# Altium integrated library Linear Technology Power Management Switching Regulator LT1074-LT8705.IntLib: 2252 symbols (part 50 of 148)
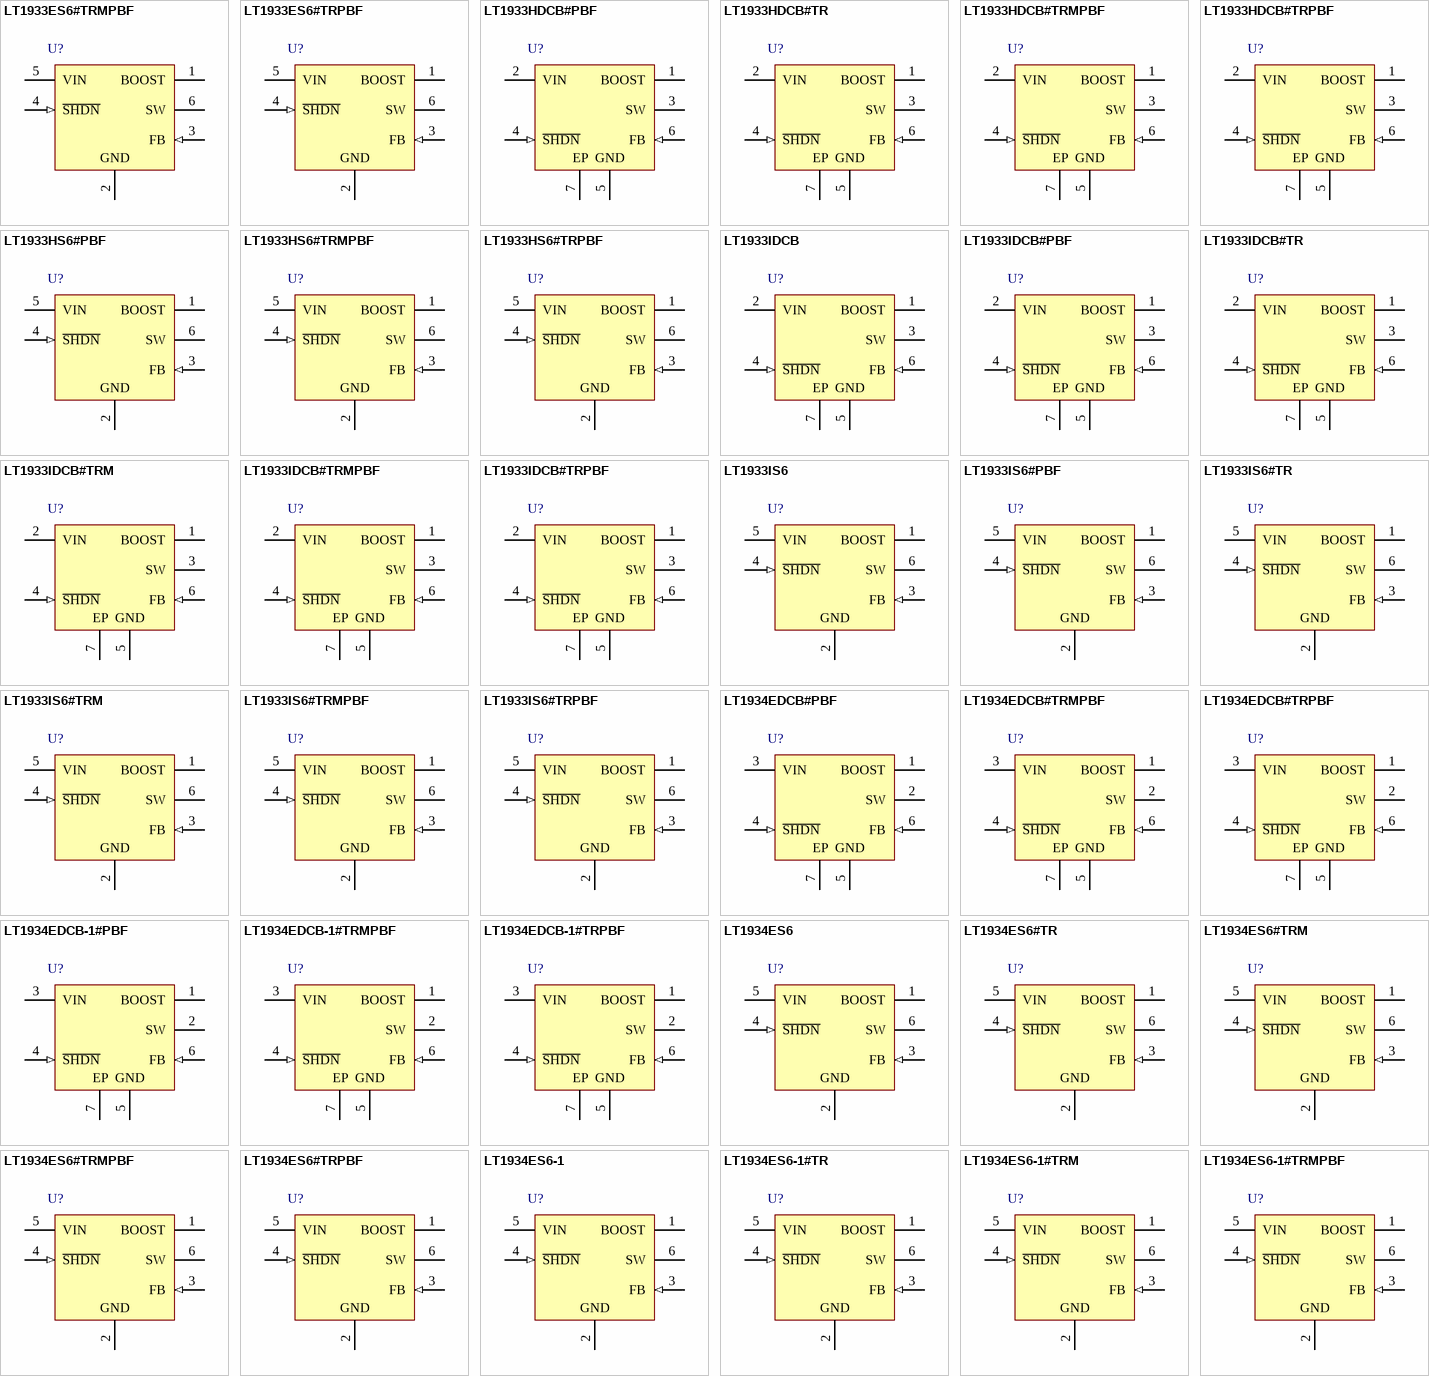
[diagram p120: symbols LT1933ES6#TRMPBF to LT1934ES6-1#TRMPBF]

## LT1933IDCB
designator U?
600 mA, 500 kHz Step-Down Switching Regulator, 6-pin SON (DCB-6), -40 to 125 degC; Manufacturer: Linear Technology; PartNumber: LT1933IDCB; Number of Outputs: 1; DatasheetVersion: Rev. E; PackageVersion: Rev. A, 03/2011; PackageReference: DCB-6; PackageDescription: 6-Pin Plastic DFN, Body 2 x 3 mm, Pitch 0.5 mm; RoHS: FALSE; Mounting Technology: Surface Mount; Code_JEDEC: MO-229; ComponentLink1Description: Manufacturer URL; ComponentLink1URL: http://www.linear.com/; ComponentLink2Description: Datasheet; ComponentLink2URL: http://cds.linear.com/docs/en/datasheet/1933fe.pdf; ComponentLink3Description: Package Specification; ComponentLink3URL: http://www.linear.com/docs/en/packaging/(DCB6)%20DFN%2005-08-1715%20Rev%20A.pdf
footprint LT-DCB-6_V (SON, 6-Leads, Body 3x2mm, Pitch 0.5mm, Thermal Pad 1.65x1.35mm)
pins: 1 BOOST "The BOOST pin is used to provide a drive voltage, higher than the input voltage, to the internal bipolar NPN power switch.", 2 VIN (power) "The VIN pin supplies current to the LT1933’s internal regulator and to the internal power switch. This pin must be locally bypassed.", 3 SW (power) "The SW pin is the output of the internal power switch. Connect this pin to the inductor, catch diode and boost capacitor.", 4 ~{SHDN} (in) "The S\H\D\N\ pin is used to put the LT1933 in shutdown mode. Tie to ground to shut down the LT1933. Tie to 2.3V or more for normal operation. If the shutdown feature is not used, tie this pin to the VIN pin. S\H\D\N\ also (See Datasheet)", 5 GND (power) "Tie the GND pin to a local ground plane below the LT1933 and the circuit components. Return the feedback divider to this pin.", 6 FB (in) "The LT1933 regulates its feedback pin to 1.245V. Connect the feedback resistor divider tap to this pin. Set the output voltage according to VOUT = 1.245V (1 + R1/R2). A good value for R2 is 10k.", 7 EP (power) "EXPOSED PAD (PIN 7) IS GND, MUST BE SOLDERED TO PCB"

## LT1933IDCB#PBF
designator U?
600 mA, 500 kHz Step-Down Switching Regulator, 6-pin SON (DCB-6), -40 to 125 degC, Pb-Free; Manufacturer: Linear Technology; PartNumber: LT1933IDCB#PBF; Number of Outputs: 1; DatasheetVersion: Rev. E; PackageVersion: Rev. A, 03/2011; PackageReference: DCB-6; PackageDescription: 6-Pin Plastic DFN, Body 2 x 3 mm, Pitch 0.5 mm; Supplier 1: Farnell; Supplier Part Number 1: 2294892; Supplier 2: Newark; Supplier Part Number 2: 78T3760; RoHS: TRUE; Mounting Technology: Surface Mount; Code_JEDEC: MO-229; ComponentLink1Description: Manufacturer URL; ComponentLink1URL: http://www.linear.com/; ComponentLink2Description: Datasheet; ComponentLink2URL: http://cds.linear.com/docs/en/datasheet/1933fe.pdf; ComponentLink3Description: Package Specification; ComponentLink3URL: http://www.linear.com/docs/en/packaging/(DCB6)%20DFN%2005-08-1715%20Rev%20A.pdf
footprint LT-DCB-6_V (SON, 6-Leads, Body 3x2mm, Pitch 0.5mm, Thermal Pad 1.65x1.35mm)
pins: 1 BOOST "The BOOST pin is used to provide a drive voltage, higher than the input voltage, to the internal bipolar NPN power switch.", 2 VIN (power) "The VIN pin supplies current to the LT1933’s internal regulator and to the internal power switch. This pin must be locally bypassed.", 3 SW (power) "The SW pin is the output of the internal power switch. Connect this pin to the inductor, catch diode and boost capacitor.", 4 ~{SHDN} (in) "The S\H\D\N\ pin is used to put the LT1933 in shutdown mode. Tie to ground to shut down the LT1933. Tie to 2.3V or more for normal operation. If the shutdown feature is not used, tie this pin to the VIN pin. S\H\D\N\ also (See Datasheet)", 5 GND (power) "Tie the GND pin to a local ground plane below the LT1933 and the circuit components. Return the feedback divider to this pin.", 6 FB (in) "The LT1933 regulates its feedback pin to 1.245V. Connect the feedback resistor divider tap to this pin. Set the output voltage according to VOUT = 1.245V (1 + R1/R2). A good value for R2 is 10k.", 7 EP (power) "EXPOSED PAD (PIN 7) IS GND, MUST BE SOLDERED TO PCB"

## LT1933IDCB#TR
designator U?
600 mA, 500 kHz Step-Down Switching Regulator, 6-pin SON (DCB-6), -40 to 125 degC, Tape and Reel; Manufacturer: Linear Technology; PartNumber: LT1933IDCB#TR; Number of Outputs: 1; DatasheetVersion: Rev. E; PackageVersion: Rev. A, 03/2011; PackageReference: DCB-6; PackageDescription: 6-Pin Plastic DFN, Body 2 x 3 mm, Pitch 0.5 mm; Packing: Tape and Reel; RoHS: FALSE; Mounting Technology: Surface Mount; Code_JEDEC: MO-229; ComponentLink1Description: Manufacturer URL; ComponentLink1URL: http://www.linear.com/; ComponentLink2Description: Datasheet; ComponentLink2URL: http://cds.linear.com/docs/en/datasheet/1933fe.pdf; ComponentLink3Description: Package Specification; ComponentLink3URL: http://www.linear.com/docs/en/packaging/(DCB6)%20DFN%2005-08-1715%20Rev%20A.pdf
footprint LT-DCB-6_V (SON, 6-Leads, Body 3x2mm, Pitch 0.5mm, Thermal Pad 1.65x1.35mm)
pins: 1 BOOST "The BOOST pin is used to provide a drive voltage, higher than the input voltage, to the internal bipolar NPN power switch.", 2 VIN (power) "The VIN pin supplies current to the LT1933’s internal regulator and to the internal power switch. This pin must be locally bypassed.", 3 SW (power) "The SW pin is the output of the internal power switch. Connect this pin to the inductor, catch diode and boost capacitor.", 4 ~{SHDN} (in) "The S\H\D\N\ pin is used to put the LT1933 in shutdown mode. Tie to ground to shut down the LT1933. Tie to 2.3V or more for normal operation. If the shutdown feature is not used, tie this pin to the VIN pin. S\H\D\N\ also (See Datasheet)", 5 GND (power) "Tie the GND pin to a local ground plane below the LT1933 and the circuit components. Return the feedback divider to this pin.", 6 FB (in) "The LT1933 regulates its feedback pin to 1.245V. Connect the feedback resistor divider tap to this pin. Set the output voltage according to VOUT = 1.245V (1 + R1/R2). A good value for R2 is 10k.", 7 EP (power) "EXPOSED PAD (PIN 7) IS GND, MUST BE SOLDERED TO PCB"

## LT1933IDCB#TRM
designator U?
600 mA, 500 kHz Step-Down Switching Regulator, 6-pin SON (DCB-6), -40 to 125 degC, Mini Tape and Reel; Manufacturer: Linear Technology; PartNumber: LT1933IDCB#TRM; Number of Outputs: 1; DatasheetVersion: Rev. E; PackageVersion: Rev. A, 03/2011; PackageReference: DCB-6; PackageDescription: 6-Pin Plastic DFN, Body 2 x 3 mm, Pitch 0.5 mm; Packing: Mini Tape and Reel; RoHS: FALSE; Mounting Technology: Surface Mount; Code_JEDEC: MO-229; ComponentLink1Description: Manufacturer URL; ComponentLink1URL: http://www.linear.com/; ComponentLink2Description: Datasheet; ComponentLink2URL: http://cds.linear.com/docs/en/datasheet/1933fe.pdf; ComponentLink3Description: Package Specification; ComponentLink3URL: http://www.linear.com/docs/en/packaging/(DCB6)%20DFN%2005-08-1715%20Rev%20A.pdf
footprint LT-DCB-6_V (SON, 6-Leads, Body 3x2mm, Pitch 0.5mm, Thermal Pad 1.65x1.35mm)
pins: 1 BOOST "The BOOST pin is used to provide a drive voltage, higher than the input voltage, to the internal bipolar NPN power switch.", 2 VIN (power) "The VIN pin supplies current to the LT1933’s internal regulator and to the internal power switch. This pin must be locally bypassed.", 3 SW (power) "The SW pin is the output of the internal power switch. Connect this pin to the inductor, catch diode and boost capacitor.", 4 ~{SHDN} (in) "The S\H\D\N\ pin is used to put the LT1933 in shutdown mode. Tie to ground to shut down the LT1933. Tie to 2.3V or more for normal operation. If the shutdown feature is not used, tie this pin to the VIN pin. S\H\D\N\ also (See Datasheet)", 5 GND (power) "Tie the GND pin to a local ground plane below the LT1933 and the circuit components. Return the feedback divider to this pin.", 6 FB (in) "The LT1933 regulates its feedback pin to 1.245V. Connect the feedback resistor divider tap to this pin. Set the output voltage according to VOUT = 1.245V (1 + R1/R2). A good value for R2 is 10k.", 7 EP (power) "EXPOSED PAD (PIN 7) IS GND, MUST BE SOLDERED TO PCB"

## LT1933IDCB#TRMPBF
designator U?
600 mA, 500 kHz Step-Down Switching Regulator, 6-pin SON (DCB-6), -40 to 125 degC, Pb-Free, Mini Tape and Reel; Manufacturer: Linear Technology; PartNumber: LT1933IDCB#TRMPBF; Number of Outputs: 1; DatasheetVersion: Rev. E; PackageVersion: Rev. A, 03/2011; PackageReference: DCB-6; PackageDescription: 6-Pin Plastic DFN, Body 2 x 3 mm, Pitch 0.5 mm; Supplier 1: Digi-Key; Supplier Part Number 1: LT1933IDCB#TRMPBF-ND; Supplier 2: Newark; Supplier Part Number 2: 57M7190; Packing: Mini Tape and Reel; RoHS: TRUE; Mounting Technology: Surface Mount; Code_JEDEC: MO-229; ComponentLink1Description: Manufacturer URL; ComponentLink1URL: http://www.linear.com/; ComponentLink2Description: Datasheet; ComponentLink2URL: http://cds.linear.com/docs/en/datasheet/1933fe.pdf; ComponentLink3Description: Package Specification; ComponentLink3URL: http://www.linear.com/docs/en/packaging/(DCB6)%20DFN%2005-08-1715%20Rev%20A.pdf
footprint LT-DCB-6_V (SON, 6-Leads, Body 3x2mm, Pitch 0.5mm, Thermal Pad 1.65x1.35mm)
pins: 1 BOOST "The BOOST pin is used to provide a drive voltage, higher than the input voltage, to the internal bipolar NPN power switch.", 2 VIN (power) "The VIN pin supplies current to the LT1933’s internal regulator and to the internal power switch. This pin must be locally bypassed.", 3 SW (power) "The SW pin is the output of the internal power switch. Connect this pin to the inductor, catch diode and boost capacitor.", 4 ~{SHDN} (in) "The S\H\D\N\ pin is used to put the LT1933 in shutdown mode. Tie to ground to shut down the LT1933. Tie to 2.3V or more for normal operation. If the shutdown feature is not used, tie this pin to the VIN pin. S\H\D\N\ also (See Datasheet)", 5 GND (power) "Tie the GND pin to a local ground plane below the LT1933 and the circuit components. Return the feedback divider to this pin.", 6 FB (in) "The LT1933 regulates its feedback pin to 1.245V. Connect the feedback resistor divider tap to this pin. Set the output voltage according to VOUT = 1.245V (1 + R1/R2). A good value for R2 is 10k.", 7 EP (power) "EXPOSED PAD (PIN 7) IS GND, MUST BE SOLDERED TO PCB"

## LT1933IDCB#TRPBF
designator U?
600 mA, 500 kHz Step-Down Switching Regulator, 6-pin SON (DCB-6), -40 to 125 degC, Pb-Free, Tape and Reel; Manufacturer: Linear Technology; PartNumber: LT1933IDCB#TRPBF; Number of Outputs: 1; DatasheetVersion: Rev. E; PackageVersion: Rev. A, 03/2011; PackageReference: DCB-6; PackageDescription: 6-Pin Plastic DFN, Body 2 x 3 mm, Pitch 0.5 mm; Supplier 1: Digi-Key; Supplier Part Number 1: LT1933IDCB#TRPBF-ND; Supplier 2: Newark; Supplier Part Number 2: 57M7191; Packing: Tape and Reel; RoHS: TRUE; Mounting Technology: Surface Mount; Code_JEDEC: MO-229; ComponentLink1Description: Manufacturer URL; ComponentLink1URL: http://www.linear.com/; ComponentLink2Description: Datasheet; ComponentLink2URL: http://cds.linear.com/docs/en/datasheet/1933fe.pdf; ComponentLink3Description: Package Specification; ComponentLink3URL: http://www.linear.com/docs/en/packaging/(DCB6)%20DFN%2005-08-1715%20Rev%20A.pdf
footprint LT-DCB-6_V (SON, 6-Leads, Body 3x2mm, Pitch 0.5mm, Thermal Pad 1.65x1.35mm)
pins: 1 BOOST "The BOOST pin is used to provide a drive voltage, higher than the input voltage, to the internal bipolar NPN power switch.", 2 VIN (power) "The VIN pin supplies current to the LT1933’s internal regulator and to the internal power switch. This pin must be locally bypassed.", 3 SW (power) "The SW pin is the output of the internal power switch. Connect this pin to the inductor, catch diode and boost capacitor.", 4 ~{SHDN} (in) "The S\H\D\N\ pin is used to put the LT1933 in shutdown mode. Tie to ground to shut down the LT1933. Tie to 2.3V or more for normal operation. If the shutdown feature is not used, tie this pin to the VIN pin. S\H\D\N\ also (See Datasheet)", 5 GND (power) "Tie the GND pin to a local ground plane below the LT1933 and the circuit components. Return the feedback divider to this pin.", 6 FB (in) "The LT1933 regulates its feedback pin to 1.245V. Connect the feedback resistor divider tap to this pin. Set the output voltage according to VOUT = 1.245V (1 + R1/R2). A good value for R2 is 10k.", 7 EP (power) "EXPOSED PAD (PIN 7) IS GND, MUST BE SOLDERED TO PCB"

## LT1933IS6
designator U?
600 mA, 500 kHz Step-Down Switching Regulator, 6-pin SOT23 (S6-6), -40 to 125 degC; Manufacturer: Linear Technology; PartNumber: LT1933IS6; Number of Outputs: 1; DatasheetVersion: Rev. E; PackageVersion: Aug-07; PackageReference: S6-6; PackageDescription: 6-Pin Plastic SOT-23, Body 1.625 x 2.9 mm, Pitch 0.95 mm; RoHS: FALSE; Mounting Technology: Surface Mount; ComponentLink1Description: Manufacturer URL; ComponentLink1URL: http://www.linear.com/; ComponentLink2Description: Datasheet; ComponentLink2URL: http://cds.linear.com/docs/en/datasheet/1933fe.pdf; ComponentLink3Description: Package Specification; ComponentLink3URL: http://cds.linear.com/docs/en/datasheet/175435f.pdf
footprint LT-S6-6-SOT-23_N (SOT23, 6-Leads, Body 3x1.75mm, Pitch 0.95mm, IPC Medium Density)
footprint LT-S6-6-SOT-23_L (SOT23, 6-Leads, Body 3x1.75mm, Pitch 0.95mm, IPC High Density)
footprint LT-S6-6-SOT-23_M (SOT23, 6-Leads, Body 3x1.75mm, Pitch 0.95mm, IPC Low Density)
pins: 1 BOOST "The BOOST pin is used to provide a drive voltage, higher than the input voltage, to the internal bipolar NPN power switch.", 2 GND (power), 3 FB (in), 4 ~{SHDN} (in), 5 VIN (power), 6 SW (power) "The SW pin is the output of the internal power switch. Connect this pin to the inductor, catch diode and boost capacitor."

## LT1933IS6#PBF
designator U?
600 mA, 500 kHz Step-Down Switching Regulator, 6-pin SOT23 (S6-6), -40 to 125 degC, Pb-Free; Manufacturer: Linear Technology; PartNumber: LT1933IS6#PBF; Number of Outputs: 1; DatasheetVersion: Rev. E; PackageVersion: Aug-07; PackageReference: S6-6; PackageDescription: 6-Pin Plastic SOT-23, Body 1.625 x 2.9 mm, Pitch 0.95 mm; Supplier 1: Farnell; Supplier Part Number 1: 2102607; Supplier 2: Newark; Supplier Part Number 2: 61M3374; RoHS: TRUE; Mounting Technology: Surface Mount; ComponentLink1Description: Manufacturer URL; ComponentLink1URL: http://www.linear.com/; ComponentLink2Description: Datasheet; ComponentLink2URL: http://cds.linear.com/docs/en/datasheet/1933fe.pdf; ComponentLink3Description: Package Specification; ComponentLink3URL: http://cds.linear.com/docs/en/datasheet/175435f.pdf
footprint LT-S6-6-SOT-23_N (SOT23, 6-Leads, Body 3x1.75mm, Pitch 0.95mm, IPC Medium Density)
footprint LT-S6-6-SOT-23_L (SOT23, 6-Leads, Body 3x1.75mm, Pitch 0.95mm, IPC High Density)
footprint LT-S6-6-SOT-23_M (SOT23, 6-Leads, Body 3x1.75mm, Pitch 0.95mm, IPC Low Density)
pins: 1 BOOST "The BOOST pin is used to provide a drive voltage, higher than the input voltage, to the internal bipolar NPN power switch.", 2 GND (power), 3 FB (in), 4 ~{SHDN} (in), 5 VIN (power), 6 SW (power) "The SW pin is the output of the internal power switch. Connect this pin to the inductor, catch diode and boost capacitor."

## LT1933IS6#TR
designator U?
600 mA, 500 kHz Step-Down Switching Regulator, 6-pin SOT23 (S6-6), -40 to 125 degC, Tape and Reel; Manufacturer: Linear Technology; PartNumber: LT1933IS6#TR; Number of Outputs: 1; DatasheetVersion: Rev. E; PackageVersion: Aug-07; PackageReference: S6-6; PackageDescription: 6-Pin Plastic SOT-23, Body 1.625 x 2.9 mm, Pitch 0.95 mm; Supplier 1: Digi-Key; Supplier Part Number 1: LT1933IS6#TR-ND; Packing: Tape and Reel; RoHS: FALSE; Mounting Technology: Surface Mount; ComponentLink1Description: Manufacturer URL; ComponentLink1URL: http://www.linear.com/; ComponentLink2Description: Datasheet; ComponentLink2URL: http://cds.linear.com/docs/en/datasheet/1933fe.pdf; ComponentLink3Description: Package Specification; ComponentLink3URL: http://cds.linear.com/docs/en/datasheet/175435f.pdf
footprint LT-S6-6-SOT-23_N (SOT23, 6-Leads, Body 3x1.75mm, Pitch 0.95mm, IPC Medium Density)
footprint LT-S6-6-SOT-23_L (SOT23, 6-Leads, Body 3x1.75mm, Pitch 0.95mm, IPC High Density)
footprint LT-S6-6-SOT-23_M (SOT23, 6-Leads, Body 3x1.75mm, Pitch 0.95mm, IPC Low Density)
pins: 1 BOOST "The BOOST pin is used to provide a drive voltage, higher than the input voltage, to the internal bipolar NPN power switch.", 2 GND (power), 3 FB (in), 4 ~{SHDN} (in), 5 VIN (power), 6 SW (power) "The SW pin is the output of the internal power switch. Connect this pin to the inductor, catch diode and boost capacitor."

## LT1933IS6#TRM
designator U?
600 mA, 500 kHz Step-Down Switching Regulator, 6-pin SOT23 (S6-6), -40 to 125 degC, Mini Tape and Reel; Manufacturer: Linear Technology; PartNumber: LT1933IS6#TRM; Number of Outputs: 1; DatasheetVersion: Rev. E; PackageVersion: Aug-07; PackageReference: S6-6; PackageDescription: 6-Pin Plastic SOT-23, Body 1.625 x 2.9 mm, Pitch 0.95 mm; Supplier 1: Digi-Key; Supplier Part Number 1: LT1933IS6#TRM-ND; Packing: Mini Tape and Reel; RoHS: FALSE; Mounting Technology: Surface Mount; ComponentLink1Description: Manufacturer URL; ComponentLink1URL: http://www.linear.com/; ComponentLink2Description: Datasheet; ComponentLink2URL: http://cds.linear.com/docs/en/datasheet/1933fe.pdf; ComponentLink3Description: Package Specification; ComponentLink3URL: http://cds.linear.com/docs/en/datasheet/175435f.pdf
footprint LT-S6-6-SOT-23_N (SOT23, 6-Leads, Body 3x1.75mm, Pitch 0.95mm, IPC Medium Density)
footprint LT-S6-6-SOT-23_L (SOT23, 6-Leads, Body 3x1.75mm, Pitch 0.95mm, IPC High Density)
footprint LT-S6-6-SOT-23_M (SOT23, 6-Leads, Body 3x1.75mm, Pitch 0.95mm, IPC Low Density)
pins: 1 BOOST "The BOOST pin is used to provide a drive voltage, higher than the input voltage, to the internal bipolar NPN power switch.", 2 GND (power), 3 FB (in), 4 ~{SHDN} (in), 5 VIN (power), 6 SW (power) "The SW pin is the output of the internal power switch. Connect this pin to the inductor, catch diode and boost capacitor."

## LT1933IS6#TRMPBF
designator U?
600 mA, 500 kHz Step-Down Switching Regulator, 6-pin SOT23 (S6-6), -40 to 125 degC, Pb-Free, Mini Tape and Reel; Manufacturer: Linear Technology; PartNumber: LT1933IS6#TRMPBF; Number of Outputs: 1; DatasheetVersion: Rev. E; PackageVersion: Aug-07; PackageReference: S6-6; PackageDescription: 6-Pin Plastic SOT-23, Body 1.625 x 2.9 mm, Pitch 0.95 mm; Supplier 1: Digi-Key; Supplier Part Number 1: LT1933IS6#TRMPBFTR-ND; Supplier 2: Digi-Key; Supplier Part Number 2: LT1933IS6#TRMPBFCT-ND; Supplier 3: Digi-Key; Supplier Part Number 3: LT1933IS6#TRMPBFDKR-ND; Supplier 4: Newark; Supplier Part Number 4: 57M7194; Packing: Mini Tape and Reel; RoHS: TRUE; Mounting Technology: Surface Mount; ComponentLink1Description: Manufacturer URL; ComponentLink1URL: http://www.linear.com/; ComponentLink2Description: Datasheet; ComponentLink2URL: http://cds.linear.com/docs/en/datasheet/1933fe.pdf; ComponentLink3Description: Package Specification; ComponentLink3URL: http://cds.linear.com/docs/en/datasheet/175435f.pdf
footprint LT-S6-6-SOT-23_N (SOT23, 6-Leads, Body 3x1.75mm, Pitch 0.95mm, IPC Medium Density)
footprint LT-S6-6-SOT-23_L (SOT23, 6-Leads, Body 3x1.75mm, Pitch 0.95mm, IPC High Density)
footprint LT-S6-6-SOT-23_M (SOT23, 6-Leads, Body 3x1.75mm, Pitch 0.95mm, IPC Low Density)
pins: 1 BOOST "The BOOST pin is used to provide a drive voltage, higher than the input voltage, to the internal bipolar NPN power switch.", 2 GND (power), 3 FB (in), 4 ~{SHDN} (in), 5 VIN (power), 6 SW (power) "The SW pin is the output of the internal power switch. Connect this pin to the inductor, catch diode and boost capacitor."

## LT1933IS6#TRPBF
designator U?
600 mA, 500 kHz Step-Down Switching Regulator, 6-pin SOT23 (S6-6), -40 to 125 degC, Pb-Free, Tape and Reel; Manufacturer: Linear Technology; PartNumber: LT1933IS6#TRPBF; Number of Outputs: 1; DatasheetVersion: Rev. E; PackageVersion: Aug-07; PackageReference: S6-6; PackageDescription: 6-Pin Plastic SOT-23, Body 1.625 x 2.9 mm, Pitch 0.95 mm; Supplier 1: Digi-Key; Supplier Part Number 1: LT1933IS6#TRPBF-ND; Supplier 2: Newark; Supplier Part Number 2: 57M7195; Packing: Tape and Reel; RoHS: TRUE; Mounting Technology: Surface Mount; ComponentLink1Description: Manufacturer URL; ComponentLink1URL: http://www.linear.com/; ComponentLink2Description: Datasheet; ComponentLink2URL: http://cds.linear.com/docs/en/datasheet/1933fe.pdf; ComponentLink3Description: Package Specification; ComponentLink3URL: http://cds.linear.com/docs/en/datasheet/175435f.pdf
footprint LT-S6-6-SOT-23_N (SOT23, 6-Leads, Body 3x1.75mm, Pitch 0.95mm, IPC Medium Density)
footprint LT-S6-6-SOT-23_L (SOT23, 6-Leads, Body 3x1.75mm, Pitch 0.95mm, IPC High Density)
footprint LT-S6-6-SOT-23_M (SOT23, 6-Leads, Body 3x1.75mm, Pitch 0.95mm, IPC Low Density)
pins: 1 BOOST "The BOOST pin is used to provide a drive voltage, higher than the input voltage, to the internal bipolar NPN power switch.", 2 GND (power), 3 FB (in), 4 ~{SHDN} (in), 5 VIN (power), 6 SW (power) "The SW pin is the output of the internal power switch. Connect this pin to the inductor, catch diode and boost capacitor."

## LT1934EDCB#PBF
designator U?
Micropower Step-Down Switching Regulator, 6-pin SON (DCB-6), -40 to 85 degC, Pb-Free; Manufacturer: Linear Technology; PartNumber: LT1934EDCB#PBF; Number of Outputs: 1; DatasheetVersion: Rev. E; PackageVersion: Rev. A, 03/2011; PackageReference: DCB-6; PackageDescription: 6-Pin Plastic DFN, Body 2 x 3 mm, Pitch 0.5 mm; RoHS: TRUE; Mounting Technology: Surface Mount; Code_JEDEC: MO-229; ComponentLink1Description: Manufacturer URL; ComponentLink1URL: http://www.linear.com/; ComponentLink2Description: Datasheet; ComponentLink2URL: http://cds.linear.com/docs/en/datasheet/1934fe.pdf; ComponentLink3Description: Package Specification; ComponentLink3URL: http://www.linear.com/docs/en/packaging/(DCB6)%20DFN%2005-08-1715%20Rev%20A.pdf
footprint LT-DCB-6_V (SON, 6-Leads, Body 3x2mm, Pitch 0.5mm, Thermal Pad 1.65x1.35mm)
pins: 1 BOOST "The BOOST pin is used to provide a drive voltage, higher than the input voltage, to the internal bipolar NPN power switch.", 2 SW (power) "The SW pin is the output of the internal power switch. Connect this pin to the inductor, catch diode and boost capacitor.", 3 VIN (power) "The VIN pin supplies current to the LT1934’s internal regulator and to the internal power switch. This pin must be locally bypassed.", 4 ~{SHDN} (in) "The S\H\D\N\ pin is used to put the LT1934 in shutdown mode. Tie to ground to shut down the LT1934. Apply 2.3V or more for normal operation. If the shutdown feature is not used, tie this pin to the VIN pin.", 5 GND (power) "Tie the GND pin to a local ground plane below the LT1934 and the circuit components. Return the feedback divider to this pin.", 6 FB (in) "The LT1934 regulates its feedback pin to 1.25V. Connect the feedback resistor divider tap to this pin. Set the output voltage according to VOUT = 1.25V (1 + R1/R2) or R1 = R2 (VOUT/1.25 - 1).", 7 EP (power) "This pin must be soldered to ground plane."

## LT1934EDCB#TRMPBF
designator U?
Micropower Step-Down Switching Regulator, 6-pin SON (DCB-6), -40 to 85 degC, Pb-Free, Mini Tape and Reel; Manufacturer: Linear Technology; PartNumber: LT1934EDCB#TRMPBF; Number of Outputs: 1; DatasheetVersion: Rev. E; PackageVersion: Rev. A, 03/2011; PackageReference: DCB-6; PackageDescription: 6-Pin Plastic DFN, Body 2 x 3 mm, Pitch 0.5 mm; Supplier 1: Digi-Key; Supplier Part Number 1: LT1934EDCB#TRMPBF-ND; Packing: Mini Tape and Reel; RoHS: TRUE; Mounting Technology: Surface Mount; Code_JEDEC: MO-229; ComponentLink1Description: Manufacturer URL; ComponentLink1URL: http://www.linear.com/; ComponentLink2Description: Datasheet; ComponentLink2URL: http://cds.linear.com/docs/en/datasheet/1934fe.pdf; ComponentLink3Description: Package Specification; ComponentLink3URL: http://www.linear.com/docs/en/packaging/(DCB6)%20DFN%2005-08-1715%20Rev%20A.pdf
footprint LT-DCB-6_V (SON, 6-Leads, Body 3x2mm, Pitch 0.5mm, Thermal Pad 1.65x1.35mm)
pins: 1 BOOST "The BOOST pin is used to provide a drive voltage, higher than the input voltage, to the internal bipolar NPN power switch.", 2 SW (power) "The SW pin is the output of the internal power switch. Connect this pin to the inductor, catch diode and boost capacitor.", 3 VIN (power) "The VIN pin supplies current to the LT1934’s internal regulator and to the internal power switch. This pin must be locally bypassed.", 4 ~{SHDN} (in) "The S\H\D\N\ pin is used to put the LT1934 in shutdown mode. Tie to ground to shut down the LT1934. Apply 2.3V or more for normal operation. If the shutdown feature is not used, tie this pin to the VIN pin.", 5 GND (power) "Tie the GND pin to a local ground plane below the LT1934 and the circuit components. Return the feedback divider to this pin.", 6 FB (in) "The LT1934 regulates its feedback pin to 1.25V. Connect the feedback resistor divider tap to this pin. Set the output voltage according to VOUT = 1.25V (1 + R1/R2) or R1 = R2 (VOUT/1.25 - 1).", 7 EP (power) "This pin must be soldered to ground plane."

## LT1934EDCB#TRPBF
designator U?
Micropower Step-Down Switching Regulator, 6-pin SON (DCB-6), -40 to 85 degC, Pb-Free, Tape and Reel; Manufacturer: Linear Technology; PartNumber: LT1934EDCB#TRPBF; Number of Outputs: 1; DatasheetVersion: Rev. E; PackageVersion: Rev. A, 03/2011; PackageReference: DCB-6; PackageDescription: 6-Pin Plastic DFN, Body 2 x 3 mm, Pitch 0.5 mm; Supplier 1: Digi-Key; Supplier Part Number 1: LT1934EDCB#TRPBF-ND; Supplier 2: Newark; Supplier Part Number 2: 57M7197; Packing: Tape and Reel; RoHS: TRUE; Mounting Technology: Surface Mount; Code_JEDEC: MO-229; ComponentLink1Description: Manufacturer URL; ComponentLink1URL: http://www.linear.com/; ComponentLink2Description: Datasheet; ComponentLink2URL: http://cds.linear.com/docs/en/datasheet/1934fe.pdf; ComponentLink3Description: Package Specification; ComponentLink3URL: http://www.linear.com/docs/en/packaging/(DCB6)%20DFN%2005-08-1715%20Rev%20A.pdf
footprint LT-DCB-6_V (SON, 6-Leads, Body 3x2mm, Pitch 0.5mm, Thermal Pad 1.65x1.35mm)
pins: 1 BOOST "The BOOST pin is used to provide a drive voltage, higher than the input voltage, to the internal bipolar NPN power switch.", 2 SW (power) "The SW pin is the output of the internal power switch. Connect this pin to the inductor, catch diode and boost capacitor.", 3 VIN (power) "The VIN pin supplies current to the LT1934’s internal regulator and to the internal power switch. This pin must be locally bypassed.", 4 ~{SHDN} (in) "The S\H\D\N\ pin is used to put the LT1934 in shutdown mode. Tie to ground to shut down the LT1934. Apply 2.3V or more for normal operation. If the shutdown feature is not used, tie this pin to the VIN pin.", 5 GND (power) "Tie the GND pin to a local ground plane below the LT1934 and the circuit components. Return the feedback divider to this pin.", 6 FB (in) "The LT1934 regulates its feedback pin to 1.25V. Connect the feedback resistor divider tap to this pin. Set the output voltage according to VOUT = 1.25V (1 + R1/R2) or R1 = R2 (VOUT/1.25 - 1).", 7 EP (power) "This pin must be soldered to ground plane."

## LT1934EDCB-1#PBF
designator U?
Micropower Step-Down Switching Regulator, 6-pin SON (DCB-6), -40 to 85 degC, Pb-Free; Manufacturer: Linear Technology; PartNumber: LT1934EDCB-1#PBF; Number of Outputs: 1; DatasheetVersion: Rev. E; PackageVersion: Rev. A, 03/2011; PackageReference: DCB-6; PackageDescription: 6-Pin Plastic DFN, Body 2 x 3 mm, Pitch 0.5 mm; Supplier 1: Newark; Supplier Part Number 1: 78T3761; RoHS: TRUE; Mounting Technology: Surface Mount; Code_JEDEC: MO-229; ComponentLink1Description: Manufacturer URL; ComponentLink1URL: http://www.linear.com/; ComponentLink2Description: Datasheet; ComponentLink2URL: http://cds.linear.com/docs/en/datasheet/1934fe.pdf; ComponentLink3Description: Package Specification; ComponentLink3URL: http://www.linear.com/docs/en/packaging/(DCB6)%20DFN%2005-08-1715%20Rev%20A.pdf
footprint LT-DCB-6_V (SON, 6-Leads, Body 3x2mm, Pitch 0.5mm, Thermal Pad 1.65x1.35mm)
pins: 1 BOOST "The BOOST pin is used to provide a drive voltage, higher than the input voltage, to the internal bipolar NPN power switch.", 2 SW (power) "The SW pin is the output of the internal power switch. Connect this pin to the inductor, catch diode and boost capacitor.", 3 VIN (power) "The VIN pin supplies current to the LT1934’s internal regulator and to the internal power switch. This pin must be locally bypassed.", 4 ~{SHDN} (in) "The S\H\D\N\ pin is used to put the LT1934 in shutdown mode. Tie to ground to shut down the LT1934. Apply 2.3V or more for normal operation. If the shutdown feature is not used, tie this pin to the VIN pin.", 5 GND (power) "Tie the GND pin to a local ground plane below the LT1934 and the circuit components. Return the feedback divider to this pin.", 6 FB (in) "The LT1934 regulates its feedback pin to 1.25V. Connect the feedback resistor divider tap to this pin. Set the output voltage according to VOUT = 1.25V (1 + R1/R2) or R1 = R2 (VOUT/1.25 - 1).", 7 EP (power) "This pin must be soldered to ground plane."

## LT1934EDCB-1#TRMPBF
designator U?
Micropower Step-Down Switching Regulator, 6-pin SON (DCB-6), -40 to 85 degC, Pb-Free, Mini Tape and Reel; Manufacturer: Linear Technology; PartNumber: LT1934EDCB-1#TRMPBF; Number of Outputs: 1; DatasheetVersion: Rev. E; PackageVersion: Rev. A, 03/2011; PackageReference: DCB-6; PackageDescription: 6-Pin Plastic DFN, Body 2 x 3 mm, Pitch 0.5 mm; Supplier 1: Digi-Key; Supplier Part Number 1: LT1934EDCB-1#TRMPBF-ND; Packing: Mini Tape and Reel; RoHS: TRUE; Mounting Technology: Surface Mount; Code_JEDEC: MO-229; ComponentLink1Description: Manufacturer URL; ComponentLink1URL: http://www.linear.com/; ComponentLink2Description: Datasheet; ComponentLink2URL: http://cds.linear.com/docs/en/datasheet/1934fe.pdf; ComponentLink3Description: Package Specification; ComponentLink3URL: http://www.linear.com/docs/en/packaging/(DCB6)%20DFN%2005-08-1715%20Rev%20A.pdf
footprint LT-DCB-6_V (SON, 6-Leads, Body 3x2mm, Pitch 0.5mm, Thermal Pad 1.65x1.35mm)
pins: 1 BOOST "The BOOST pin is used to provide a drive voltage, higher than the input voltage, to the internal bipolar NPN power switch.", 2 SW (power) "The SW pin is the output of the internal power switch. Connect this pin to the inductor, catch diode and boost capacitor.", 3 VIN (power) "The VIN pin supplies current to the LT1934’s internal regulator and to the internal power switch. This pin must be locally bypassed.", 4 ~{SHDN} (in) "The S\H\D\N\ pin is used to put the LT1934 in shutdown mode. Tie to ground to shut down the LT1934. Apply 2.3V or more for normal operation. If the shutdown feature is not used, tie this pin to the VIN pin.", 5 GND (power) "Tie the GND pin to a local ground plane below the LT1934 and the circuit components. Return the feedback divider to this pin.", 6 FB (in) "The LT1934 regulates its feedback pin to 1.25V. Connect the feedback resistor divider tap to this pin. Set the output voltage according to VOUT = 1.25V (1 + R1/R2) or R1 = R2 (VOUT/1.25 - 1).", 7 EP (power) "This pin must be soldered to ground plane."

## LT1934EDCB-1#TRPBF
designator U?
Micropower Step-Down Switching Regulator, 6-pin SON (DCB-6), -40 to 85 degC, Pb-Free, Tape and Reel; Manufacturer: Linear Technology; PartNumber: LT1934EDCB-1#TRPBF; Number of Outputs: 1; DatasheetVersion: Rev. E; PackageVersion: Rev. A, 03/2011; PackageReference: DCB-6; PackageDescription: 6-Pin Plastic DFN, Body 2 x 3 mm, Pitch 0.5 mm; Supplier 1: Digi-Key; Supplier Part Number 1: LT1934EDCB-1#TRPBF-ND; Packing: Tape and Reel; RoHS: TRUE; Mounting Technology: Surface Mount; Code_JEDEC: MO-229; ComponentLink1Description: Manufacturer URL; ComponentLink1URL: http://www.linear.com/; ComponentLink2Description: Datasheet; ComponentLink2URL: http://cds.linear.com/docs/en/datasheet/1934fe.pdf; ComponentLink3Description: Package Specification; ComponentLink3URL: http://www.linear.com/docs/en/packaging/(DCB6)%20DFN%2005-08-1715%20Rev%20A.pdf
footprint LT-DCB-6_V (SON, 6-Leads, Body 3x2mm, Pitch 0.5mm, Thermal Pad 1.65x1.35mm)
pins: 1 BOOST "The BOOST pin is used to provide a drive voltage, higher than the input voltage, to the internal bipolar NPN power switch.", 2 SW (power) "The SW pin is the output of the internal power switch. Connect this pin to the inductor, catch diode and boost capacitor.", 3 VIN (power) "The VIN pin supplies current to the LT1934’s internal regulator and to the internal power switch. This pin must be locally bypassed.", 4 ~{SHDN} (in) "The S\H\D\N\ pin is used to put the LT1934 in shutdown mode. Tie to ground to shut down the LT1934. Apply 2.3V or more for normal operation. If the shutdown feature is not used, tie this pin to the VIN pin.", 5 GND (power) "Tie the GND pin to a local ground plane below the LT1934 and the circuit components. Return the feedback divider to this pin.", 6 FB (in) "The LT1934 regulates its feedback pin to 1.25V. Connect the feedback resistor divider tap to this pin. Set the output voltage according to VOUT = 1.25V (1 + R1/R2) or R1 = R2 (VOUT/1.25 - 1).", 7 EP (power) "This pin must be soldered to ground plane."

## LT1934ES6
designator U?
Micropower Step-Down Switching Regulator, 6-pin SOT23 (S6-6), -40 to 85 degC; Manufacturer: Linear Technology; PartNumber: LT1934ES6; Number of Outputs: 1; DatasheetVersion: Rev. E; PackageVersion: Jun-10; PackageReference: S6-6; PackageDescription: 6-Pin Plastic TSOT-23, Body 2.9 x 1.63 mm, Pitch 0.95 mm; RoHS: FALSE; Mounting Technology: Surface Mount; Code_JEDEC: MO-193; ComponentLink1Description: Manufacturer URL; ComponentLink1URL: http://www.linear.com/; ComponentLink2Description: Datasheet; ComponentLink2URL: http://cds.linear.com/docs/en/datasheet/1934fe.pdf; ComponentLink3Description: Package Specification; ComponentLink3URL: http://cds.linear.com/docs/en/packaging/SOT_6_05-08-1636.pdf
footprint LT-S6-6-TSOT-23_N (SOT23, 6-Leads, Body 2.9x1.75mm, Pitch 0.95mm, IPC Medium Density)
footprint LT-S6-6-TSOT-23_L (SOT23, 6-Leads, Body 2.9x1.75mm, Pitch 0.95mm, IPC High Density)
footprint LT-S6-6-TSOT-23_M (SOT23, 6-Leads, Body 2.9x1.75mm, Pitch 0.95mm, IPC Low Density)
pins: 1 BOOST "The BOOST pin is used to provide a drive voltage, higher than the input voltage, to the internal bipolar NPN power switch.", 2 GND (power), 3 FB (in), 4 ~{SHDN} (in), 5 VIN (power), 6 SW (power) "The SW pin is the output of the internal power switch. Connect this pin to the inductor, catch diode and boost capacitor."

## LT1934ES6#TR
designator U?
Micropower Step-Down Switching Regulator, 6-pin SOT23 (S6-6), -40 to 85 degC, Tape and Reel; Manufacturer: Linear Technology; PartNumber: LT1934ES6#TR; Number of Outputs: 1; DatasheetVersion: Rev. E; PackageVersion: Jun-10; PackageReference: S6-6; PackageDescription: 6-Pin Plastic TSOT-23, Body 2.9 x 1.63 mm, Pitch 0.95 mm; Supplier 1: Digi-Key; Supplier Part Number 1: LT1934ES6#TR-ND; Supplier 2: Newark; Supplier Part Number 2: 57M7202; Packing: Tape and Reel; RoHS: FALSE; Mounting Technology: Surface Mount; Code_JEDEC: MO-193; ComponentLink1Description: Manufacturer URL; ComponentLink1URL: http://www.linear.com/; ComponentLink2Description: Datasheet; ComponentLink2URL: http://cds.linear.com/docs/en/datasheet/1934fe.pdf; ComponentLink3Description: Package Specification; ComponentLink3URL: http://cds.linear.com/docs/en/packaging/SOT_6_05-08-1636.pdf
footprint LT-S6-6-TSOT-23_N (SOT23, 6-Leads, Body 2.9x1.75mm, Pitch 0.95mm, IPC Medium Density)
footprint LT-S6-6-TSOT-23_L (SOT23, 6-Leads, Body 2.9x1.75mm, Pitch 0.95mm, IPC High Density)
footprint LT-S6-6-TSOT-23_M (SOT23, 6-Leads, Body 2.9x1.75mm, Pitch 0.95mm, IPC Low Density)
pins: 1 BOOST "The BOOST pin is used to provide a drive voltage, higher than the input voltage, to the internal bipolar NPN power switch.", 2 GND (power), 3 FB (in), 4 ~{SHDN} (in), 5 VIN (power), 6 SW (power) "The SW pin is the output of the internal power switch. Connect this pin to the inductor, catch diode and boost capacitor."

## LT1934ES6#TRM
designator U?
Micropower Step-Down Switching Regulator, 6-pin SOT23 (S6-6), -40 to 85 degC, Mini Tape and Reel; Manufacturer: Linear Technology; PartNumber: LT1934ES6#TRM; Number of Outputs: 1; DatasheetVersion: Rev. E; PackageVersion: Jun-10; PackageReference: S6-6; PackageDescription: 6-Pin Plastic TSOT-23, Body 2.9 x 1.63 mm, Pitch 0.95 mm; Supplier 1: Digi-Key; Supplier Part Number 1: LT1934ES6#TRMTR-ND; Supplier 2: Digi-Key; Supplier Part Number 2: LT1934ES6#TRMCT-ND; Supplier 3: Newark; Supplier Part Number 3: 57M7203; Packing: Mini Tape and Reel; RoHS: FALSE; Mounting Technology: Surface Mount; Code_JEDEC: MO-193; ComponentLink1Description: Manufacturer URL; ComponentLink1URL: http://www.linear.com/; ComponentLink2Description: Datasheet; ComponentLink2URL: http://cds.linear.com/docs/en/datasheet/1934fe.pdf; ComponentLink3Description: Package Specification; ComponentLink3URL: http://cds.linear.com/docs/en/packaging/SOT_6_05-08-1636.pdf
footprint LT-S6-6-TSOT-23_N (SOT23, 6-Leads, Body 2.9x1.75mm, Pitch 0.95mm, IPC Medium Density)
footprint LT-S6-6-TSOT-23_L (SOT23, 6-Leads, Body 2.9x1.75mm, Pitch 0.95mm, IPC High Density)
footprint LT-S6-6-TSOT-23_M (SOT23, 6-Leads, Body 2.9x1.75mm, Pitch 0.95mm, IPC Low Density)
pins: 1 BOOST "The BOOST pin is used to provide a drive voltage, higher than the input voltage, to the internal bipolar NPN power switch.", 2 GND (power), 3 FB (in), 4 ~{SHDN} (in), 5 VIN (power), 6 SW (power) "The SW pin is the output of the internal power switch. Connect this pin to the inductor, catch diode and boost capacitor."

## LT1934ES6#TRMPBF
designator U?
Micropower Step-Down Switching Regulator, 6-pin SOT23 (S6-6), -40 to 85 degC, Pb-Free, Mini Tape and Reel; Manufacturer: Linear Technology; PartNumber: LT1934ES6#TRMPBF; Number of Outputs: 1; DatasheetVersion: Rev. E; PackageVersion: Jun-10; PackageReference: S6-6; PackageDescription: 6-Pin Plastic TSOT-23, Body 2.9 x 1.63 mm, Pitch 0.95 mm; Supplier 1: Digi-Key; Supplier Part Number 1: LT1934ES6#TRMPBFTR-ND; Supplier 2: Digi-Key; Supplier Part Number 2: LT1934ES6#TRMPBFCT-ND; Supplier 3: Digi-Key; Supplier Part Number 3: LT1934ES6#TRMPBFDKR-ND; Supplier 4: Farnell; Supplier Part Number 4: 1663810RL; Supplier 5: Farnell; Supplier Part Number 5: 1663810; Supplier 6: Newark; Supplier Part Number 6: 59M8316; Packing: Mini Tape and Reel; RoHS: TRUE; Mounting Technology: Surface Mount; Code_JEDEC: MO-193; ComponentLink1Description: Manufacturer URL; ComponentLink1URL: http://www.linear.com/; ComponentLink2Description: Datasheet; ComponentLink2URL: http://cds.linear.com/docs/en/datasheet/1934fe.pdf; ComponentLink3Description: Package Specification; ComponentLink3URL: http://cds.linear.com/docs/en/packaging/SOT_6_05-08-1636.pdf
footprint LT-S6-6-TSOT-23_N (SOT23, 6-Leads, Body 2.9x1.75mm, Pitch 0.95mm, IPC Medium Density)
footprint LT-S6-6-TSOT-23_L (SOT23, 6-Leads, Body 2.9x1.75mm, Pitch 0.95mm, IPC High Density)
footprint LT-S6-6-TSOT-23_M (SOT23, 6-Leads, Body 2.9x1.75mm, Pitch 0.95mm, IPC Low Density)
pins: 1 BOOST "The BOOST pin is used to provide a drive voltage, higher than the input voltage, to the internal bipolar NPN power switch.", 2 GND (power), 3 FB (in), 4 ~{SHDN} (in), 5 VIN (power), 6 SW (power) "The SW pin is the output of the internal power switch. Connect this pin to the inductor, catch diode and boost capacitor."

## LT1934ES6#TRPBF
designator U?
Micropower Step-Down Switching Regulator, 6-pin SOT23 (S6-6), -40 to 85 degC, Pb-Free, Tape and Reel; Manufacturer: Linear Technology; PartNumber: LT1934ES6#TRPBF; Number of Outputs: 1; DatasheetVersion: Rev. E; PackageVersion: Jun-10; PackageReference: S6-6; PackageDescription: 6-Pin Plastic TSOT-23, Body 2.9 x 1.63 mm, Pitch 0.95 mm; Supplier 1: Digi-Key; Supplier Part Number 1: LT1934ES6#TRPBF-ND; Supplier 2: Newark; Supplier Part Number 2: 57M7205; Packing: Tape and Reel; RoHS: TRUE; Mounting Technology: Surface Mount; Code_JEDEC: MO-193; ComponentLink1Description: Manufacturer URL; ComponentLink1URL: http://www.linear.com/; ComponentLink2Description: Datasheet; ComponentLink2URL: http://cds.linear.com/docs/en/datasheet/1934fe.pdf; ComponentLink3Description: Package Specification; ComponentLink3URL: http://cds.linear.com/docs/en/packaging/SOT_6_05-08-1636.pdf
footprint LT-S6-6-TSOT-23_N (SOT23, 6-Leads, Body 2.9x1.75mm, Pitch 0.95mm, IPC Medium Density)
footprint LT-S6-6-TSOT-23_L (SOT23, 6-Leads, Body 2.9x1.75mm, Pitch 0.95mm, IPC High Density)
footprint LT-S6-6-TSOT-23_M (SOT23, 6-Leads, Body 2.9x1.75mm, Pitch 0.95mm, IPC Low Density)
pins: 1 BOOST "The BOOST pin is used to provide a drive voltage, higher than the input voltage, to the internal bipolar NPN power switch.", 2 GND (power), 3 FB (in), 4 ~{SHDN} (in), 5 VIN (power), 6 SW (power) "The SW pin is the output of the internal power switch. Connect this pin to the inductor, catch diode and boost capacitor."

## LT1934ES6-1
designator U?
Micropower Step-Down Switching Regulator, 6-pin SOT23 (S6-6), -40 to 85 degC; Manufacturer: Linear Technology; PartNumber: LT1934ES6-1; Number of Outputs: 1; DatasheetVersion: Rev. E; PackageVersion: Jun-10; PackageReference: S6-6; PackageDescription: 6-Pin Plastic TSOT-23, Body 2.9 x 1.63 mm, Pitch 0.95 mm; RoHS: FALSE; Mounting Technology: Surface Mount; Code_JEDEC: MO-193; ComponentLink1Description: Manufacturer URL; ComponentLink1URL: http://www.linear.com/; ComponentLink2Description: Datasheet; ComponentLink2URL: http://cds.linear.com/docs/en/datasheet/1934fe.pdf; ComponentLink3Description: Package Specification; ComponentLink3URL: http://cds.linear.com/docs/en/packaging/SOT_6_05-08-1636.pdf
footprint LT-S6-6-TSOT-23_N (SOT23, 6-Leads, Body 2.9x1.75mm, Pitch 0.95mm, IPC Medium Density)
footprint LT-S6-6-TSOT-23_L (SOT23, 6-Leads, Body 2.9x1.75mm, Pitch 0.95mm, IPC High Density)
footprint LT-S6-6-TSOT-23_M (SOT23, 6-Leads, Body 2.9x1.75mm, Pitch 0.95mm, IPC Low Density)
pins: 1 BOOST "The BOOST pin is used to provide a drive voltage, higher than the input voltage, to the internal bipolar NPN power switch.", 2 GND (power), 3 FB (in), 4 ~{SHDN} (in), 5 VIN (power), 6 SW (power) "The SW pin is the output of the internal power switch. Connect this pin to the inductor, catch diode and boost capacitor."

## LT1934ES6-1#TR
designator U?
Micropower Step-Down Switching Regulator, 6-pin SOT23 (S6-6), -40 to 85 degC, Tape and Reel; Manufacturer: Linear Technology; PartNumber: LT1934ES6-1#TR; Number of Outputs: 1; DatasheetVersion: Rev. E; PackageVersion: Jun-10; PackageReference: S6-6; PackageDescription: 6-Pin Plastic TSOT-23, Body 2.9 x 1.63 mm, Pitch 0.95 mm; Supplier 1: Digi-Key; Supplier Part Number 1: LT1934ES6-1#TR-ND; Packing: Tape and Reel; RoHS: FALSE; Mounting Technology: Surface Mount; Code_JEDEC: MO-193; ComponentLink1Description: Manufacturer URL; ComponentLink1URL: http://www.linear.com/; ComponentLink2Description: Datasheet; ComponentLink2URL: http://cds.linear.com/docs/en/datasheet/1934fe.pdf; ComponentLink3Description: Package Specification; ComponentLink3URL: http://cds.linear.com/docs/en/packaging/SOT_6_05-08-1636.pdf
footprint LT-S6-6-TSOT-23_N (SOT23, 6-Leads, Body 2.9x1.75mm, Pitch 0.95mm, IPC Medium Density)
footprint LT-S6-6-TSOT-23_L (SOT23, 6-Leads, Body 2.9x1.75mm, Pitch 0.95mm, IPC High Density)
footprint LT-S6-6-TSOT-23_M (SOT23, 6-Leads, Body 2.9x1.75mm, Pitch 0.95mm, IPC Low Density)
pins: 1 BOOST "The BOOST pin is used to provide a drive voltage, higher than the input voltage, to the internal bipolar NPN power switch.", 2 GND (power), 3 FB (in), 4 ~{SHDN} (in), 5 VIN (power), 6 SW (power) "The SW pin is the output of the internal power switch. Connect this pin to the inductor, catch diode and boost capacitor."

## LT1934ES6-1#TRM
designator U?
Micropower Step-Down Switching Regulator, 6-pin SOT23 (S6-6), -40 to 85 degC, Mini Tape and Reel; Manufacturer: Linear Technology; PartNumber: LT1934ES6-1#TRM; Number of Outputs: 1; DatasheetVersion: Rev. E; PackageVersion: Jun-10; PackageReference: S6-6; PackageDescription: 6-Pin Plastic TSOT-23, Body 2.9 x 1.63 mm, Pitch 0.95 mm; Supplier 1: Digi-Key; Supplier Part Number 1: LT1934ES6-1#TRM-ND; Packing: Mini Tape and Reel; RoHS: FALSE; Mounting Technology: Surface Mount; Code_JEDEC: MO-193; ComponentLink1Description: Manufacturer URL; ComponentLink1URL: http://www.linear.com/; ComponentLink2Description: Datasheet; ComponentLink2URL: http://cds.linear.com/docs/en/datasheet/1934fe.pdf; ComponentLink3Description: Package Specification; ComponentLink3URL: http://cds.linear.com/docs/en/packaging/SOT_6_05-08-1636.pdf
footprint LT-S6-6-TSOT-23_N (SOT23, 6-Leads, Body 2.9x1.75mm, Pitch 0.95mm, IPC Medium Density)
footprint LT-S6-6-TSOT-23_L (SOT23, 6-Leads, Body 2.9x1.75mm, Pitch 0.95mm, IPC High Density)
footprint LT-S6-6-TSOT-23_M (SOT23, 6-Leads, Body 2.9x1.75mm, Pitch 0.95mm, IPC Low Density)
pins: 1 BOOST "The BOOST pin is used to provide a drive voltage, higher than the input voltage, to the internal bipolar NPN power switch.", 2 GND (power), 3 FB (in), 4 ~{SHDN} (in), 5 VIN (power), 6 SW (power) "The SW pin is the output of the internal power switch. Connect this pin to the inductor, catch diode and boost capacitor."

## LT1934ES6-1#TRMPBF
designator U?
Micropower Step-Down Switching Regulator, 6-pin SOT23 (S6-6), -40 to 85 degC, Pb-Free, Mini Tape and Reel; Manufacturer: Linear Technology; PartNumber: LT1934ES6-1#TRMPBF; Number of Outputs: 1; DatasheetVersion: Rev. E; PackageVersion: Jun-10; PackageReference: S6-6; PackageDescription: 6-Pin Plastic TSOT-23, Body 2.9 x 1.63 mm, Pitch 0.95 mm; Supplier 1: Digi-Key; Supplier Part Number 1: LT1934ES6-1#TRMPBFTR-ND; Supplier 2: Digi-Key; Supplier Part Number 2: LT1934ES6-1#TRMPBFCT-ND; Supplier 3: Digi-Key; Supplier Part Number 3: LT1934ES6-1#TRMPBFDKR-ND; Supplier 4: Newark; Supplier Part Number 4: 57M7200; Packing: Mini Tape and Reel; RoHS: TRUE; Mounting Technology: Surface Mount; Code_JEDEC: MO-193; ComponentLink1Description: Manufacturer URL; ComponentLink1URL: http://www.linear.com/; ComponentLink2Description: Datasheet; ComponentLink2URL: http://cds.linear.com/docs/en/datasheet/1934fe.pdf; ComponentLink3Description: Package Specification; ComponentLink3URL: http://cds.linear.com/docs/en/packaging/SOT_6_05-08-1636.pdf
footprint LT-S6-6-TSOT-23_N (SOT23, 6-Leads, Body 2.9x1.75mm, Pitch 0.95mm, IPC Medium Density)
footprint LT-S6-6-TSOT-23_L (SOT23, 6-Leads, Body 2.9x1.75mm, Pitch 0.95mm, IPC High Density)
footprint LT-S6-6-TSOT-23_M (SOT23, 6-Leads, Body 2.9x1.75mm, Pitch 0.95mm, IPC Low Density)
pins: 1 BOOST "The BOOST pin is used to provide a drive voltage, higher than the input voltage, to the internal bipolar NPN power switch.", 2 GND (power), 3 FB (in), 4 ~{SHDN} (in), 5 VIN (power), 6 SW (power) "The SW pin is the output of the internal power switch. Connect this pin to the inductor, catch diode and boost capacitor."

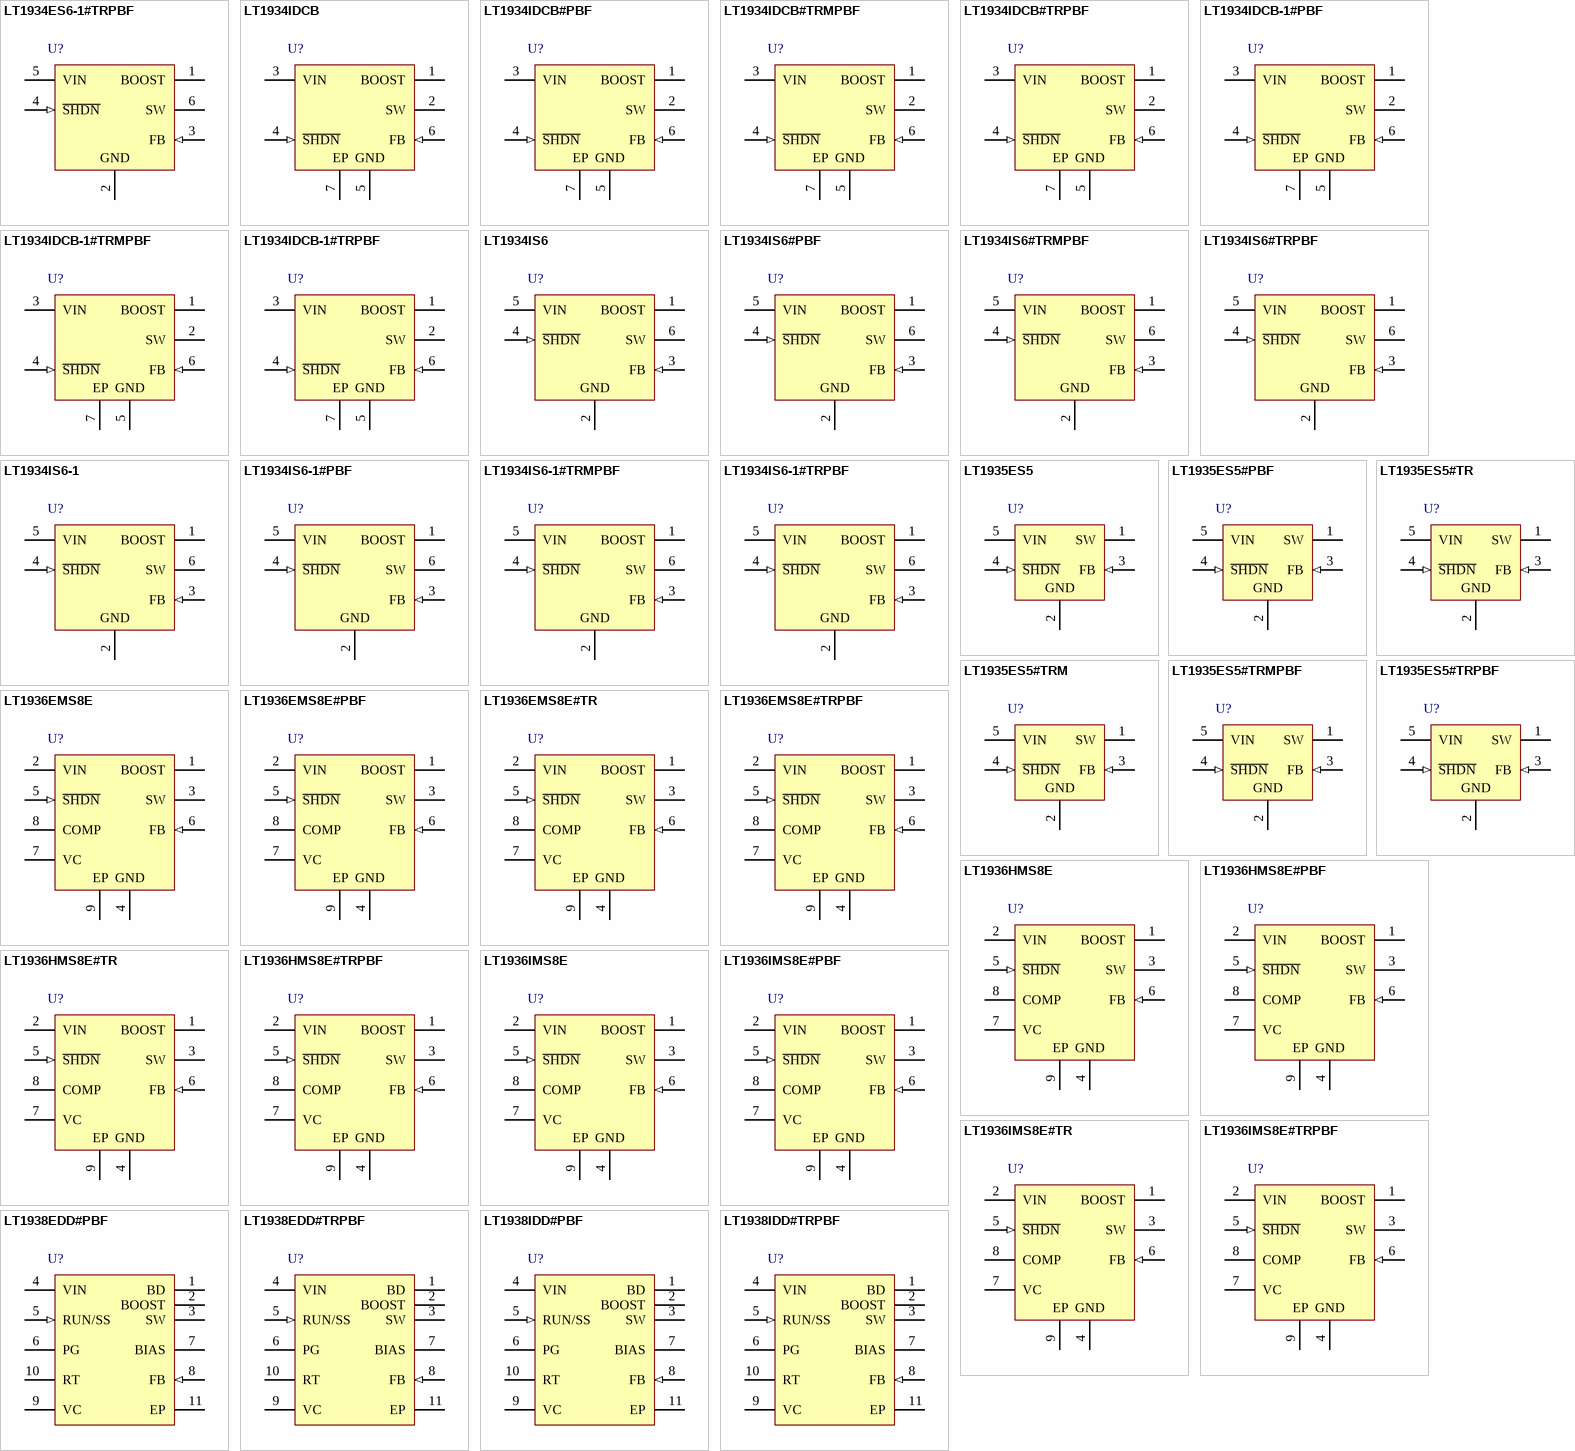
[diagram p26: symbols LT1934ES6-1#TRPBF to LT1938IDD#TRPBF]

## LT1934ES6-1#TRPBF
designator U?
Micropower Step-Down Switching Regulator, 6-pin SOT23 (S6-6), -40 to 85 degC, Pb-Free, Tape and Reel; Manufacturer: Linear Technology; PartNumber: LT1934ES6-1#TRPBF; Number of Outputs: 1; DatasheetVersion: Rev. E; PackageVersion: Jun-10; PackageReference: S6-6; PackageDescription: 6-Pin Plastic TSOT-23, Body 2.9 x 1.63 mm, Pitch 0.95 mm; Supplier 1: Digi-Key; Supplier Part Number 1: LT1934ES6-1#TRPBF-ND; Supplier 2: Newark; Supplier Part Number 2: 57M7201; Packing: Tape and Reel; RoHS: TRUE; Mounting Technology: Surface Mount; Code_JEDEC: MO-193; ComponentLink1Description: Manufacturer URL; ComponentLink1URL: http://www.linear.com/; ComponentLink2Description: Datasheet; ComponentLink2URL: http://cds.linear.com/docs/en/datasheet/1934fe.pdf; ComponentLink3Description: Package Specification; ComponentLink3URL: http://cds.linear.com/docs/en/packaging/SOT_6_05-08-1636.pdf
footprint LT-S6-6-TSOT-23_N (SOT23, 6-Leads, Body 2.9x1.75mm, Pitch 0.95mm, IPC Medium Density)
footprint LT-S6-6-TSOT-23_L (SOT23, 6-Leads, Body 2.9x1.75mm, Pitch 0.95mm, IPC High Density)
footprint LT-S6-6-TSOT-23_M (SOT23, 6-Leads, Body 2.9x1.75mm, Pitch 0.95mm, IPC Low Density)
pins: 1 BOOST "The BOOST pin is used to provide a drive voltage, higher than the input voltage, to the internal bipolar NPN power switch.", 2 GND (power), 3 FB (in), 4 ~{SHDN} (in), 5 VIN (power), 6 SW (power) "The SW pin is the output of the internal power switch. Connect this pin to the inductor, catch diode and boost capacitor."